# Altium schematic symbol library MCP4726A0T-E_CH.SchLib: 1 symbol
Pins are listed as number, name and electrical type; pins without a type are passive.

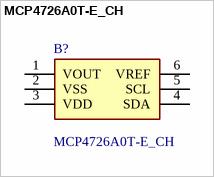
[diagram p0: symbol MCP4726A0T-E_CH]

## MCP4726A0T-E_CH
designator B?
12-bit DAC, NV, 1-channel, I2C, SOT23-6 Microchip MCP4726A0T-E/CH, 12 bit Serial DAC, 6-Pin SOT-23; Geometry.Height: 1.45mm; Mouser Part Number: 579-MCP4726A0TECH; Mouser Price/Stock: https://www.mouser.co.uk/ProductDetail/Microchip-Technology/MCP4726A0T-E-CH?qs=ggQiQSXuoRUfw4Repi%252B5rQ%3D%3D; Manufacturer_Name: Microchip; Manufacturer_Part_Number: MCP4726A0T-E/CH; Datasheet Link: https://datasheet.datasheetarchive.com/originals/distributors/Datasheets-DGA17/911550.pdf
footprint SOT95P270X145-6N
pins: 1 VOUT, 2 VSS, 3 VDD, 4 SDA, 5 SCL, 6 VREF